# Altium schematic symbol library LS10-13BxxR3P.SchLib: 1 symbol
Pins are listed as number, name and electrical type; pins without a type are passive.

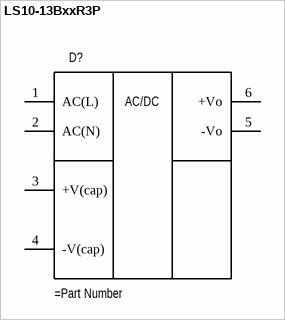
[diagram p0: symbol LS10-13BxxR3P]

## LS10-13BxxR3P
designator D?
pins: 1 AC(L), 2 AC(N), 3 +V(cap), 4 -V(cap), 5 -Vo, 6 +Vo
text: AC/DC